# Altium integrated library 1042P.IntLib: 1 symbol
Pins are listed as number, name and electrical type; pins without a type are passive.

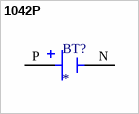
[diagram p0: symbol 1042P]

## 1042P
designator BT?
SMT Polarized Holder for 18650 Battery; MF: Keystone Electronics; MP: 1042P; Price: None; Purchase-URL: https://pricing.snapeda.com/search/part/1042P/?ref=eda; Check_prices: https://www.snapeda.com/parts/1042P/Keystone+Electronics/view-part/?ref=eda; Value: *; SnapEDA_Link: https://www.snapeda.com/parts/1042P/Keystone+Electronics/view-part/?ref=snap; Availability: In Stock; Package: None
footprint BAT_1042P
pins: N NEG, P POS